# Altium footprint library DRIVER_GATE_BOARD_solar_boost_converter.PcbLib: 1 footprints
Each footprint in its own frame and in the unit in brackets; x right, y up, seen from the top. Pads: shape width x height; smd on the part's side, far side on the other; paste and mask are expansions set on the pad; w line width, h text height; cw(c..) or ccw(c..) is an arc to the next point about the centre after c.
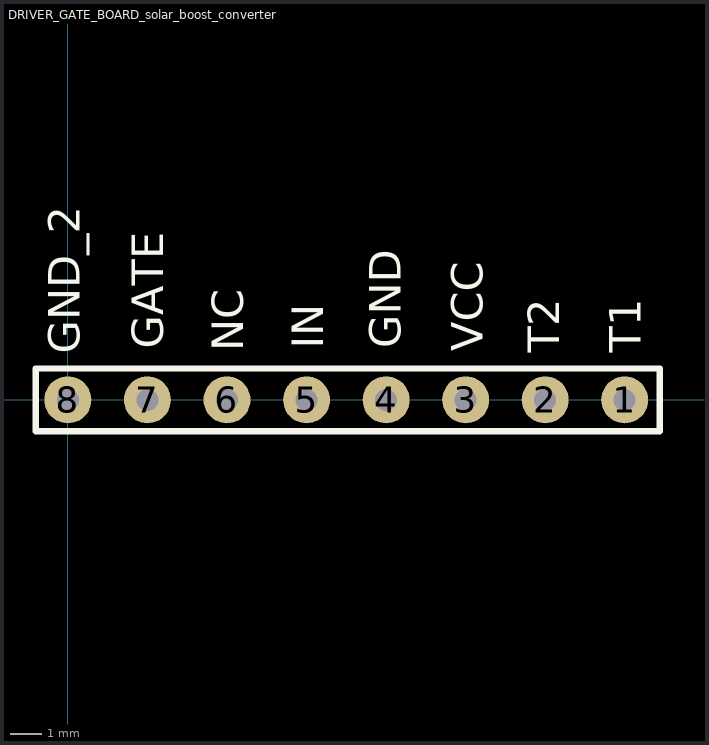
[diagram p0: the footprint, top view; thin cyan lines are the x and y axes]

## DRIVER_GATE_BOARD_solar_boost_converter [mm]
pads (8):
  round 1.5 hole 0.7: 1(17.78,0) 2(15.24,0) 3(12.7,0) 4(10.16,0) 5(7.62,0) 6(5.08,0) 7(2.54,0) 8(0,0)
Top Overlay:
  lines w0.2: -1.025,-1 -1.025,1 18.9,1 18.9,-1 -1.025,-1
  text "VCC" at 13.246,1.554 h1
  text "IN" at 8.146,1.629 h1
  text "T2" at 15.696,1.504 h1
  text "T1" at 18.296,1.504 h1
  text "GND" at 10.621,1.654 h1
  text "GND_2" at 0.379,1.479 h1
  text "NC" at 5.596,1.554 h1
  text "GATE" at 3.046,1.629 h1
Top Assembly:
  lines w0.1: -1.025,-1 -1.025,1 18.9,1 18.9,-1 -1.025,-1
  text "'.Designator'" at 6.475,-0.05 h0.7
3D body "DRIVER_GATE_BOARD_solar_boost_converter.step": height 35, standoff 5, extent -1.4,-7.5 28.6,9.241